# EAGLE library part TA6586 (library 3D-TA6586)
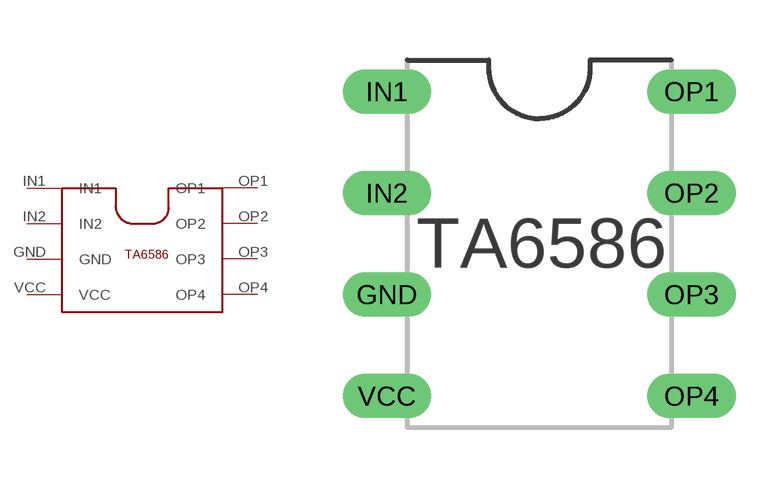
[diagram p0: symbol with the pads of TA6586; footprint TA6586]

Designator prefix -

## TA6586  [TA6586]
GND  GND
IN1  IN1
IN2  IN2
OP1  OP1
OP2  OP2
OP3  OP3
OP4  OP4
VCC  VCC

## Footprint TA6586 (pad centres in mm)
8-DIP, 2.54 mm (0.10 in) pitch, 7.62 mm (0.30 in) span, 9.20 X 6.60 X 5.08 mm body 8-pin DIP package with 2.54 mm (0.10 in) pitch, 7.62 mm (0.30 in) span with body size 9.20 X 6.60 X 5.08 mm
drill 0.6 long: GND -3.81,-1.27; IN1 -3.81,3.81; IN2 -3.81,1.27; OP1 3.81,3.81; OP2 3.81,1.27; OP3 3.81,-1.27; OP4 3.81,-3.81; VCC -3.81,-3.81